# EAGLE library part PROGRAMMATOR_ARTEM (library LARS_409_MODULES)
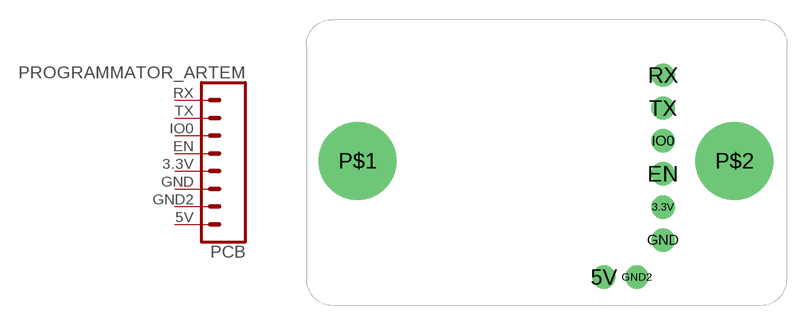
[diagram p0: symbol with the pads of PROSHIVKA_ARTEM; footprint PROSHIVKA_ARTEM]

Designator prefix PCB

## PROGRAMMATOR_ARTEM  [PROSHIVKA_ARTEM]
3.3V  3.3V  pas
5V  5V  pas
EN  EN  pas
GND  GND  pas
GND2  GND1  pas
IO0  IO0  pas
RX  RX  pas
TX  TX  pas

## Footprint PROSHIVKA_ARTEM (pad centres in mm)
drill 1 pad 1.8: 3.3V 27.5,7.44; 5V 22.95,2.04; EN 27.5,10; GND 27.5,4.9; GND2 25.49,2.04; IO0 27.5,12.54; RX 27.5,17.6; TX 27.5,15.06
drill 3 pad 6: P$1 4,11; P$2 33,11